# Altium footprint library L298N.PcbLib: 2 footprints
Each footprint in its own frame and in the unit in brackets; x right, y up, seen from the top. Pads: shape width x height; smd on the part's side, far side on the other; paste and mask are expansions set on the pad; w line width, h text height; cw(c..) or ccw(c..) is an arc to the next point about the centre after c.
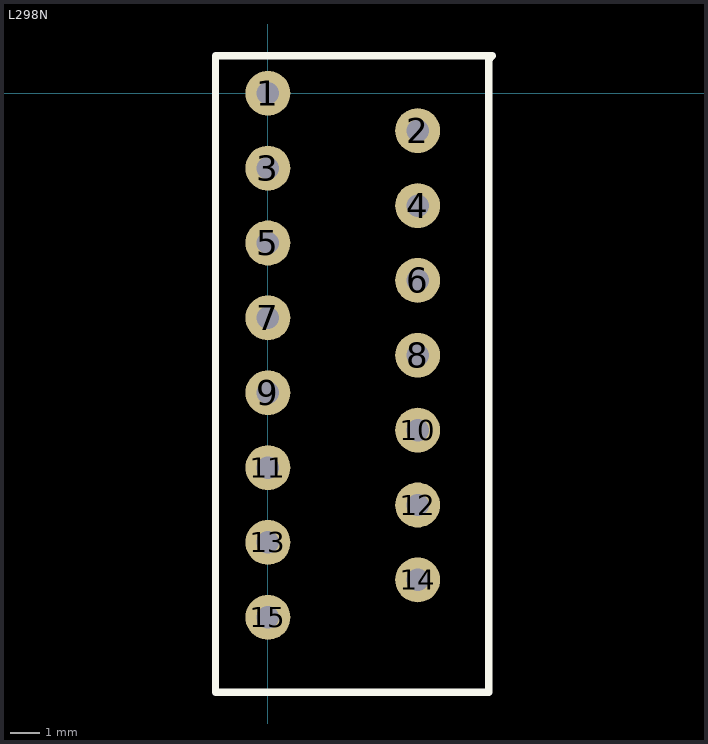
[diagram p0: the footprints below, top view; thin cyan lines are the x and y axes]

## L298N [mil]
pads (15):
  round 60 hole 30: 1(0,0) 2(200,-50) 3(0,-100) 4(200,-150) 5(0,-200) 6(200,-250) 7(0,-300) 8(200,-350) 9(0,-400) 10(200,-450) 11(0,-500) 12(200,-550) 13(0,-600) 14(200,-650) 15(0,-700)
Top Overlay:
  lines w10: -70,-800 295,-800 295,45 300,50 -70,50 -70,-800

## 散热片 [mil]